# Altium integrated library Particle-Devices.Library.IntLib: 26 symbols
Pins are listed as number, name and electrical type; pins without a type are passive.

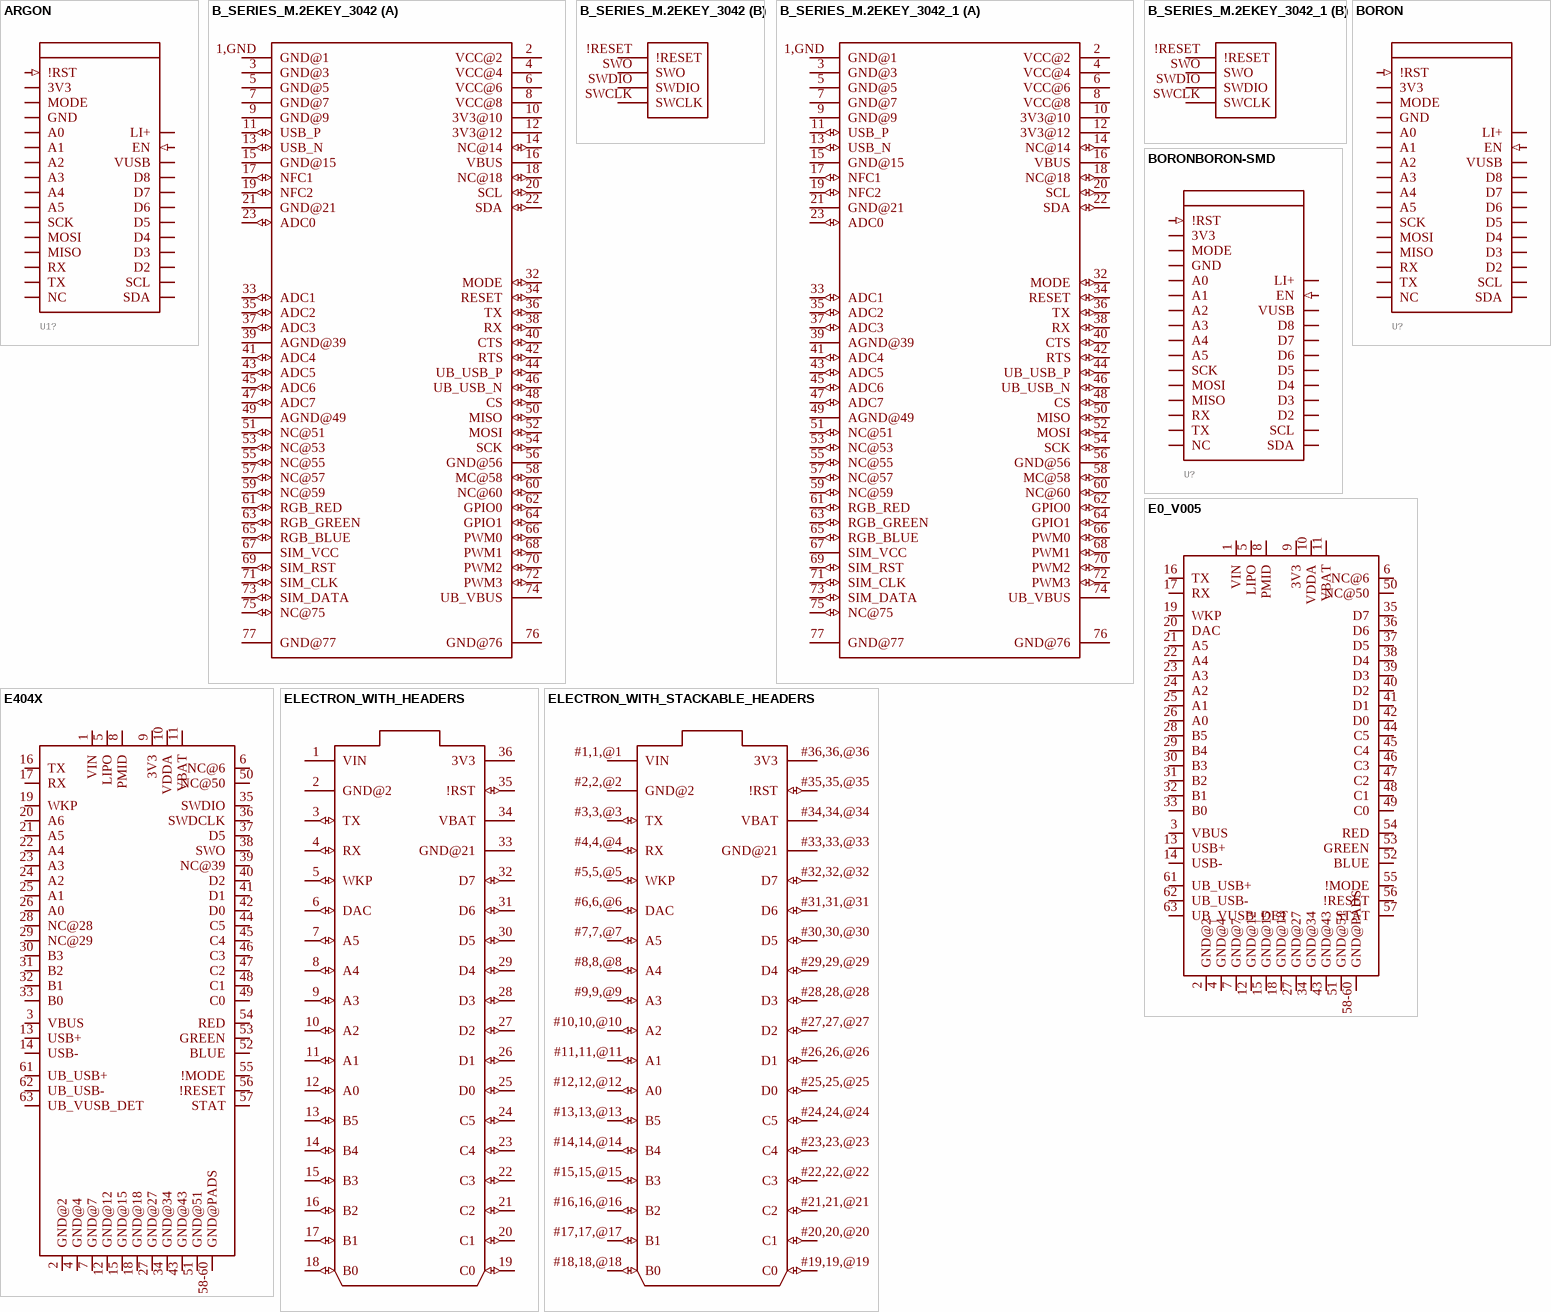
[diagram p0: symbols ARGON to ELECTRON_WITH_STACKABLE_HEADERS]

## ARGON
designator U1?, comment ARGON   The Particle Argon is a powerful Wi-Fi development kit. More information: https://docs.particle.io/argon/ Footprint and formfactor based on Adafruit Feather.  (value not drawn)
GateName_1: U1; SymbolName_1: ARGON; LibraryName: Particle-Devices; DeviceSetName: ARGON; Package: ARGON
footprint ARGON
pins: 1 !RST (in), 2 3V3 (power), 3 MODE (io), 4 GND (power), 5 A0 (io), 6 A1 (io), 7 A2 (io), 8 A3 (io), 9 A4 (io), 10 A5 (io), 11 SCK (io), 12 MOSI (io), 13 MISO (io), 14 RX (io), 15 TX (io), 16 NC (io), 17 SDA (io), 18 SCL (io), 19 D2 (io), 20 D3 (io), 21 D4 (io), 22 D5 (io), 23 D6 (io), 24 D7 (io), 25 D8 (io), 26 VUSB (power), 27 EN (in), 28 LI+ (power)

## B_SERIES_M.2EKEY_3042
designator U1?, comment Particle B Series SoM 3042 M.2 Connector with E Key  Width = 30mm Length = 42mm Height = 4.2mm Key = E  (value not drawn)
GateName_1: U1; SymbolName_1: B_SERIES_M.2EKEY; GateName_2: G$1; SymbolName_2: B_SERIES_SWD; DeviceName: 3042; DeviceSetName: B_SERIES_M.2EKEY_; LibraryName: Particle-Devices; Package: PARTICLE_M.2EKEY
footprint PARTICLE_M.2EKEY
part A pins: 1,GND GND@1 (power), 2 VCC@2 (power), 3 GND@3 (power), 4 VCC@4 (power), 5 GND@5 (power), 6 VCC@6 (power), 7 GND@7 (power), 8 VCC@8 (power), 9 GND@9 (power), 10 3V3@10 (power), 11 USB_P (io), 12 3V3@12 (power), 13 USB_N (io), 14 NC@14 (io), 15 GND@15 (power), 16 VBUS (power), 17 NFC1 (io), 18 NC@18 (io), 19 NFC2 (io), 20 SCL (io), 21 GND@21 (power), 22 SDA (io), 23 ADC0 (io), 32 MODE (io), 33 ADC1 (io), 34 RESET (io), 35 ADC2 (io), 36 TX (io), 37 ADC3 (io), 38 RX (io), 39 AGND@39 (power), 40 CTS (io), 41 ADC4 (io), 42 RTS (io), 43 ADC5 (io), 44 UB_USB_P (io), 45 ADC6 (io), 46 UB_USB_N (io), 47 ADC7 (io), 48 CS (io), 49 AGND@49 (power), 50 MISO (io), 51 NC@51 (io), 52 MOSI (io), 53 NC@53 (io), 54 SCK (io), 55 NC@55 (io), 56 GND@56 (power), 57 NC@57 (io), 58 MC@58 (io), 59 NC@59 (io), 60 NC@60 (io), 61 RGB_RED (io), 62 GPIO0 (io), 63 RGB_GREEN (io), 64 GPIO1 (io), 65 RGB_BLUE (io), 66 PWM0 (io), 67 SIM_VCC (power), 68 PWM1 (io), 69 SIM_RST (io), 70 PWM2 (io), 71 SIM_CLK (io), 72 PWM3 (io), 73 SIM_DATA (io), 74 UB_VBUS (power), 75 NC@75 (io), 76 GND@76 (power), 77 GND@77 (power)
part B pins: !RESET (power), SWCLK (power), SWDIO (power), SWO (power)

## B_SERIES_M.2EKEY_3042_1
designator U1?, comment Particle B Series SoM 3042 M.2 Connector with E Key  Width = 30mm Length = 42mm Height = 4.2mm Key = E  (value not drawn)
GateName_1: U1; SymbolName_1: B_SERIES_M.2EKEY; GateName_2: G$1; SymbolName_2: B_SERIES_SWD; DeviceName: 3042; DeviceSetName: B_SERIES_M.2EKEY_; LibraryName: Particle-Devices; Package: PARTICLE_M.2EKEY
footprint PARTICLE_M.2EKEY
part A pins: 1,GND GND@1 (power), 2 VCC@2 (power), 3 GND@3 (power), 4 VCC@4 (power), 5 GND@5 (power), 6 VCC@6 (power), 7 GND@7 (power), 8 VCC@8 (power), 9 GND@9 (power), 10 3V3@10 (power), 11 USB_P (io), 12 3V3@12 (power), 13 USB_N (io), 14 NC@14 (io), 15 GND@15 (power), 16 VBUS (power), 17 NFC1 (io), 18 NC@18 (io), 19 NFC2 (io), 20 SCL (io), 21 GND@21 (power), 22 SDA (io), 23 ADC0 (io), 32 MODE (io), 33 ADC1 (io), 34 RESET (io), 35 ADC2 (io), 36 TX (io), 37 ADC3 (io), 38 RX (io), 39 AGND@39 (power), 40 CTS (io), 41 ADC4 (io), 42 RTS (io), 43 ADC5 (io), 44 UB_USB_P (io), 45 ADC6 (io), 46 UB_USB_N (io), 47 ADC7 (io), 48 CS (io), 49 AGND@49 (power), 50 MISO (io), 51 NC@51 (io), 52 MOSI (io), 53 NC@53 (io), 54 SCK (io), 55 NC@55 (io), 56 GND@56 (power), 57 NC@57 (io), 58 MC@58 (io), 59 NC@59 (io), 60 NC@60 (io), 61 RGB_RED (io), 62 GPIO0 (io), 63 RGB_GREEN (io), 64 GPIO1 (io), 65 RGB_BLUE (io), 66 PWM0 (io), 67 SIM_VCC (power), 68 PWM1 (io), 69 SIM_RST (io), 70 PWM2 (io), 71 SIM_CLK (io), 72 PWM3 (io), 73 SIM_DATA (io), 74 UB_VBUS (power), 75 NC@75 (io), 76 GND@76 (power), 77 GND@77 (power)
part B pins: !RESET (power), SWCLK (power), SWDIO (power), SWO (power)

## BORON
designator U?, comment BORON   The Particle Boron cellular enabled development kit. More information: https://docs.particle.io/boron/ Footprint and formfactor based on Adafruit Feather.  (value not drawn)
GateName_1: U1; SymbolName_1: BORON; LibraryName: Particle-Devices; DeviceSetName: BORON; Package: BORON
footprint BORON
pins: 1 !RST (in), 2 3V3 (power), 3 MODE (io), 4 GND (power), 5 A0 (io), 6 A1 (io), 7 A2 (io), 8 A3 (io), 9 A4 (io), 10 A5 (io), 11 SCK (io), 12 MOSI (io), 13 MISO (io), 14 RX (io), 15 TX (io), 16 NC (io), 17 SDA (io), 18 SCL (io), 19 D2 (io), 20 D3 (io), 21 D4 (io), 22 D5 (io), 23 D6 (io), 24 D7 (io), 25 D8 (io), 26 VUSB (power), 27 EN (in), 28 LI+ (power)

## BORONBORON-SMD
designator U?, comment BORON   The Particle Boron cellular enabled development kit. More information: https://docs.particle.io/boron/ Footprint and formfactor based on Adafruit Feather.  (value not drawn)
GateName_1: U1; DeviceName: BORON-SMD; SymbolName_1: BORON; LibraryName: Particle-Devices; DeviceSetName: BORON; Package: BORON-SMD
footprint BORON-SMD
pins: 1 !RST (in), 2 3V3 (power), 3 MODE (io), 4 GND (power), 5 A0 (io), 6 A1 (io), 7 A2 (io), 8 A3 (io), 9 A4 (io), 10 A5 (io), 11 SCK (io), 12 MOSI (io), 13 MISO (io), 14 RX (io), 15 TX (io), 16 NC (io), 17 SDA (io), 18 SCL (io), 19 D2 (io), 20 D3 (io), 21 D4 (io), 22 D5 (io), 23 D6 (io), 24 D7 (io), 25 D8 (io), 26 VUSB (power), 27 EN (in), 28 LI+ (power)

## E0_V005
designator U?, comment Particleâ€™s E Series module platform is the Worldâ€™s simplest solution for developing and deploying cellular-connected IoT products.  Product Page : Datasheet Github : Particle devices library  (value not drawn)
GateName_1: G$1; SymbolName_1: E0; DeviceName: _V005; LibraryName: Particle-Devices; DeviceSetName: E0; Package: E0
footprint E0
pins: 1 VIN (io), 2 GND@2 (io), 3 VBUS (io), 4 GND@4 (io), 5 LIPO (io), 6 NC@6 (io), 7 GND@7 (io), 8 PMID (io), 9 3V3 (io), 10 VDDA (io), 11 VBAT (io), 12 GND@12 (io), 13 USB+ (io), 14 USB- (io), 15 GND@15 (io), 16 TX (io), 17 RX (io), 18 GND@18 (io), 19 WKP (io), 20 DAC (io), 21 A5 (io), 22 A4 (io), 23 A3 (io), 24 A2 (io), 25 A1 (io), 26 A0 (io), 27 GND@27 (io), 28 B5 (io), 29 B4 (io), 30 B3 (io), 31 B2 (io), 32 B1 (io), 33 B0 (io), 34 GND@34 (io), 35 D7 (io), 36 D6 (io), 37 D5 (io), 38 D4 (io), 39 D3 (io), 40 D2 (io), 41 D1 (io), 42 D0 (io), 43 GND@43 (io), 44 C5 (io), 45 C4 (io), 46 C3 (io), 47 C2 (io), 48 C1 (io), 49 C0 (io), 50 NC@50 (io), 51 GND@51 (io), 52 BLUE (io), 53 GREEN (io), 54 RED (io), 55 !MODE (io), 56 !RESET (io), 57 STAT (io), 58-60 GND@PADS (io), 61 UB_USB+ (io), 62 UB_USB- (io), 63 UB_VUSB_DET (io)

## E404X
designator U?, comment Particle E0  (value not drawn)
GateName_1: G$1; SymbolName_1: PARTICLE_EVO; DeviceSetName: E404X; LibraryName: Particle-Devices; Package: PARTICLE_EVO
footprint PARTICLE_EVO
pins: 1 VIN (io), 2 GND@2 (io), 3 VBUS (io), 4 GND@4 (io), 5 LIPO (io), 6 NC@6 (io), 7 GND@7 (io), 8 PMID (io), 9 3V3 (io), 10 VDDA (io), 11 VBAT (io), 12 GND@12 (io), 13 USB+ (io), 14 USB- (io), 15 GND@15 (io), 16 TX (io), 17 RX (io), 18 GND@18 (io), 19 WKP (io), 20 A6 (io), 21 A5 (io), 22 A4 (io), 23 A3 (io), 24 A2 (io), 25 A1 (io), 26 A0 (io), 27 GND@27 (io), 28 NC@28 (io), 29 NC@29 (io), 30 B3 (io), 31 B2 (io), 32 B1 (io), 33 B0 (io), 34 GND@34 (io), 35 SWDIO (io), 36 SWDCLK (io), 37 D5 (io), 38 SWO (io), 39 NC@39 (io), 40 D2 (io), 41 D1 (io), 42 D0 (io), 43 GND@43 (io), 44 C5 (io), 45 C4 (io), 46 C3 (io), 47 C2 (io), 48 C1 (io), 49 C0 (io), 50 NC@50 (io), 51 GND@51 (io), 52 BLUE (io), 53 GREEN (io), 54 RED (io), 55 !MODE (io), 56 !RESET (io), 57 STAT (io), 58-60 GND@PADS (io), 61 UB_USB+ (io), 62 UB_USB- (io), 63 UB_VUSB_DET (io)

## ELECTRON_WITH_HEADERS
designator ?, comment The Particle Electron is a tiny development kit for creating cellular-connected electronics projects and products. It comes with a SIM card (Nano 4FF) and an affordable data plan for low-bandwidth things.   Design files : here Product Page : Datasheet Github : Particle devices library  (value not drawn)
GateName_1: G$1; DeviceName: _WITH_HEADERS; SymbolName_1: ELECTRON; LibraryName: Particle-Devices; DeviceSetName: ELECTRON; Package: ELECTRON
footprint ELECTRON
pins: 1 VIN (power), 2 GND@2 (power), 3 TX (io), 4 RX (io), 5 WKP (io), 6 DAC (io), 7 A5 (io), 8 A4 (io), 9 A3 (io), 10 A2 (io), 11 A1 (io), 12 A0 (io), 13 B5 (io), 14 B4 (io), 15 B3 (io), 16 B2 (io), 17 B1 (io), 18 B0 (io), 19 C0 (io), 20 C1 (io), 21 C2 (io), 22 C3 (io), 23 C4 (io), 24 C5 (io), 25 D0 (io), 26 D1 (io), 27 D2 (io), 28 D3 (io), 29 D4 (io), 30 D5 (io), 31 D6 (io), 32 D7 (io), 33 GND@21 (power), 34 VBAT (power), 35 !RST (io), 36 3V3 (power)

## ELECTRON_WITH_STACKABLE_HEADERS
designator ?, comment The Particle Electron is a tiny development kit for creating cellular-connected electronics projects and products. It comes with a SIM card (Nano 4FF) and an affordable data plan for low-bandwidth things.   Design files : here Product Page : Datasheet Github : Particle devices library  (value not drawn)
GateName_1: G$1; DeviceName: _WITH_STACKABLE_HEADERS; SymbolName_1: ELECTRON; LibraryName: Particle-Devices; DeviceSetName: ELECTRON; Package: ELECTRON_STACKABLE
footprint ELECTRON_STACKABLE
pins: #1,1,@1 VIN (power), #2,2,@2 GND@2 (power), #3,3,@3 TX (io), #4,4,@4 RX (io), #5,5,@5 WKP (io), #6,6,@6 DAC (io), #7,7,@7 A5 (io), #8,8,@8 A4 (io), #9,9,@9 A3 (io), #10,10,@10 A2 (io), #11,11,@11 A1 (io), #12,12,@12 A0 (io), #13,13,@13 B5 (io), #14,14,@14 B4 (io), #15,15,@15 B3 (io), #16,16,@16 B2 (io), #17,17,@17 B1 (io), #18,18,@18 B0 (io), #19,19,@19 C0 (io), #20,20,@20 C1 (io), #21,21,@21 C2 (io), #22,22,@22 C3 (io), #23,23,@23 C4 (io), #24,24,@24 C5 (io), #25,25,@25 D0 (io), #26,26,@26 D1 (io), #27,27,@27 D2 (io), #28,28,@28 D3 (io), #29,29,@29 D4 (io), #30,30,@30 D5 (io), #31,31,@31 D6 (io), #32,32,@32 D7 (io), #33,33,@33 GND@21 (power), #34,34,@34 VBAT (power), #35,35,@35 !RST (io), #36,36,@36 3V3 (power)

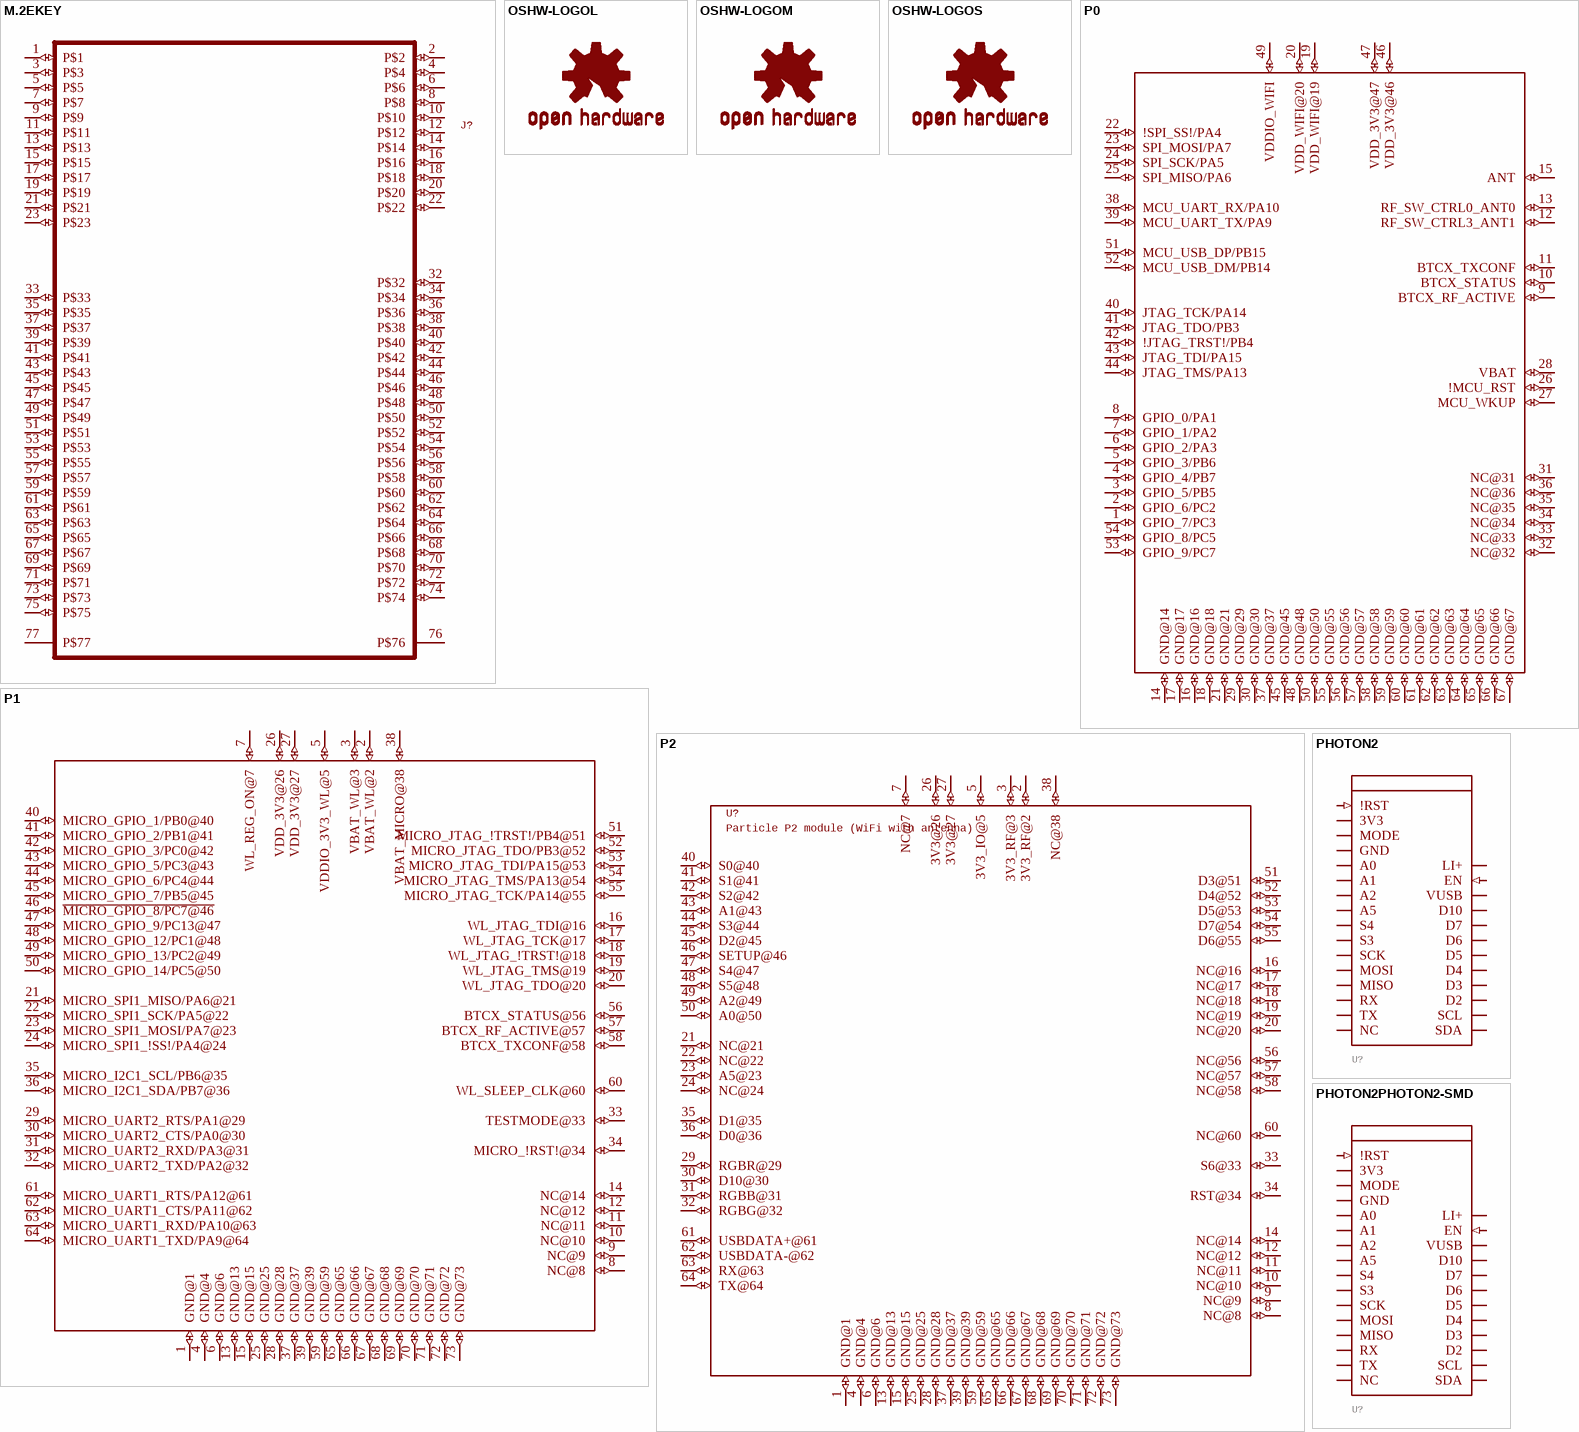
[diagram p1: symbols M.2EKEY to PHOTON2PHOTON2-SMD]

## M.2EKEY
designator J?
GateName_1: G$1; SymbolName_1: M.2EKEY; LibraryName: Particle-Devices; DeviceSetName: M.2EKEY; Package: M.2EKEY
footprint M.2EKEY
pins: 1 P$1 (io), 2 P$2 (io), 3 P$3 (io), 4 P$4 (io), 5 P$5 (io), 6 P$6 (io), 7 P$7 (io), 8 P$8 (io), 9 P$9 (io), 10 P$10 (io), 11 P$11 (io), 12 P$12 (io), 13 P$13 (io), 14 P$14 (io), 15 P$15 (io), 16 P$16 (io), 17 P$17 (io), 18 P$18 (io), 19 P$19 (io), 20 P$20 (io), 21 P$21 (io), 22 P$22 (io), 23 P$23 (io), 32 P$32 (io), 33 P$33 (io), 34 P$34 (io), 35 P$35 (io), 36 P$36 (io), 37 P$37 (io), 38 P$38 (io), 39 P$39 (io), 40 P$40 (io), 41 P$41 (io), 42 P$42 (io), 43 P$43 (io), 44 P$44 (io), 45 P$45 (io), 46 P$46 (io), 47 P$47 (io), 48 P$48 (io), 49 P$49 (io), 50 P$50 (io), 51 P$51 (io), 52 P$52 (io), 53 P$53 (io), 54 P$54 (io), 55 P$55 (io), 56 P$56 (io), 57 P$57 (io), 58 P$58 (io), 59 P$59 (io), 60 P$60 (io), 61 P$61 (io), 62 P$62 (io), 63 P$63 (io), 64 P$64 (io), 65 P$65 (io), 66 P$66 (io), 67 P$67 (io), 68 P$68 (io), 69 P$69 (io), 70 P$70 (io), 71 P$71 (io), 72 P$72 (io), 73 P$73 (io), 74 P$74 (io), 75 P$75 (io), 76 P$76 (power), 77 P$77 (power)

## OSHW-LOGOL
designator LOGO?, comment Open Source Hardware Logo This logo indicates the piece of hardware it is found on incorporates a OSHW license and/or adheres to the definition of open source hardware found here: http://freedomdefined.org/OSHW  (value not drawn)
GateName_1: G$1; SymbolName_1: OSHW-LOGO; DeviceName: L; LibraryName: Particle-Devices; DeviceSetName: OSHW-LOGO; Package: OSHW-LOGO-L
footprint OSHW-LOGO-L

## OSHW-LOGOM
designator LOGO?, comment Open Source Hardware Logo This logo indicates the piece of hardware it is found on incorporates a OSHW license and/or adheres to the definition of open source hardware found here: http://freedomdefined.org/OSHW  (value not drawn)
GateName_1: G$1; SymbolName_1: OSHW-LOGO; DeviceName: M; LibraryName: Particle-Devices; DeviceSetName: OSHW-LOGO; Package: OSHW-LOGO-M
footprint OSHW-LOGO-M

## OSHW-LOGOS
designator LOGO?, comment Open Source Hardware Logo This logo indicates the piece of hardware it is found on incorporates a OSHW license and/or adheres to the definition of open source hardware found here: http://freedomdefined.org/OSHW  (value not drawn)
GateName_1: G$1; SymbolName_1: OSHW-LOGO; DeviceName: S; LibraryName: Particle-Devices; DeviceSetName: OSHW-LOGO; Package: OSHW-LOGO-S
footprint OSHW-LOGO-S

## P0
designator U?, comment Particle P0 module (WiFi without antenna)  (value not drawn)
GateName_1: G$1; SymbolName_1: WM-N-BM-09; LibraryName: Particle-Devices; DeviceSetName: P0; Package: WM-N-BM-09
footprint WM-N-BM-09
pins: 1 GPIO_7/PC3 (io), 2 GPIO_6/PC2 (io), 3 GPIO_5/PB5 (io), 4 GPIO_4/PB7 (io), 5 GPIO_3/PB6 (io), 6 GPIO_2/PA3 (io), 7 GPIO_1/PA2 (io), 8 GPIO_0/PA1 (io), 9 BTCX_RF_ACTIVE (io), 10 BTCX_STATUS (io), 11 BTCX_TXCONF (io), 12 RF_SW_CTRL3_ANT1 (io), 13 RF_SW_CTRL0_ANT0 (io), 14 GND@14 (io), 15 ANT (io), 16 GND@16 (io), 17 GND@17 (io), 18 GND@18 (io), 19 VDD_WIFI@19 (io), 20 VDD_WIFI@20 (io), 21 GND@21 (io), 22 !SPI_SS!/PA4 (io), 23 SPI_MOSI/PA7 (io), 24 SPI_SCK/PA5 (io), 25 SPI_MISO/PA6 (io), 26 !MCU_RST (io), 27 MCU_WKUP (io), 28 VBAT (io), 29 GND@29 (io), 30 GND@30 (io), 31 NC@31 (io), 32 NC@32 (io), 33 NC@33 (io), 34 NC@34 (io), 35 NC@35 (io), 36 NC@36 (io), 37 GND@37 (io), 38 MCU_UART_RX/PA10 (io), 39 MCU_UART_TX/PA9 (io), 40 JTAG_TCK/PA14 (io), 41 JTAG_TDO/PB3 (io), 42 !JTAG_TRST!/PB4 (io), 43 JTAG_TDI/PA15 (io), 44 JTAG_TMS/PA13 (io), 45 GND@45 (io), 46 VDD_3V3@46 (io), 47 VDD_3V3@47 (io), 48 GND@48 (io), 49 VDDIO_WIFI (io), 50 GND@50 (io), 51 MCU_USB_DP/PB15 (io), 52 MCU_USB_DM/PB14 (io), 53 GPIO_9/PC7 (io), 54 GPIO_8/PC5 (io), 55 GND@55 (io), 56 GND@56 (io), 57 GND@57 (io), 58 GND@58 (io), 59 GND@59 (io), 60 GND@60 (io), 61 GND@61 (io), 62 GND@62 (io), 63 GND@63 (io), 64 GND@64 (io), 65 GND@65 (io), 66 GND@66 (io), 67 GND@67 (io)

## P1
designator ?, comment Particle P1 module (WiFi with antenna)  Product datasheet: here Github : Particle devices library  (value not drawn)
GateName_1: G$1; SymbolName_1: WM-N-BM-14; LibraryName: Particle-Devices; DeviceSetName: P1; Package: WM-N-BM-14
footprint WM-N-BM-14
pins: 1 GND@1 (io), 2 VBAT_WL@2 (io), 3 VBAT_WL@3 (io), 4 GND@4 (io), 5 VDDIO_3V3_WL@5 (io), 6 GND@6 (io), 7 WL_REG_ON@7 (io), 8 NC@8 (io), 9 NC@9 (io), 10 NC@10 (io), 11 NC@11 (io), 12 NC@12 (io), 13 GND@13 (io), 14 NC@14 (io), 15 GND@15 (io), 16 WL_JTAG_TDI@16 (io), 17 WL_JTAG_TCK@17 (io), 18 WL_JTAG_!TRST!@18 (io), 19 WL_JTAG_TMS@19 (io), 20 WL_JTAG_TDO@20 (io), 21 MICRO_SPI1_MISO/PA6@21 (io), 22 MICRO_SPI1_SCK/PA5@22 (io), 23 MICRO_SPI1_MOSI/PA7@23 (io), 24 MICRO_SPI1_!SS!/PA4@24 (io), 25 GND@25 (io), 26 VDD_3V3@26 (io), 27 VDD_3V3@27 (io), 28 GND@28 (io), 29 MICRO_UART2_RTS/PA1@29 (io), 30 MICRO_UART2_CTS/PA0@30 (io), 31 MICRO_UART2_RXD/PA3@31 (io), 32 MICRO_UART2_TXD/PA2@32 (io), 33 TESTMODE@33 (io), 34 MICRO_!RST!@34 (io), 35 MICRO_I2C1_SCL/PB6@35 (io), 36 MICRO_I2C1_SDA/PB7@36 (io), 37 GND@37 (io), 38 VBAT_MICRO@38 (io), 39 GND@39 (io), 40 MICRO_GPIO_1/PB0@40 (io), 41 MICRO_GPIO_2/PB1@41 (io), 42 MICRO_GPIO_3/PC0@42 (io), 43 MICRO_GPIO_5/PC3@43 (io), 44 MICRO_GPIO_6/PC4@44 (io), 45 MICRO_GPIO_7/PB5@45 (io), 46 ~{MICRO_GPIO_8/PC7@46} (io), 47 MICRO_GPIO_9/PC13@47 (io), 48 MICRO_GPIO_12/PC1@48 (io), 49 MICRO_GPIO_13/PC2@49 (io), 50 MICRO_GPIO_14/PC5@50 (io), 51 MICRO_JTAG_!TRST!/PB4@51 (io), 52 MICRO_JTAG_TDO/PB3@52 (io), 53 MICRO_JTAG_TDI/PA15@53 (io), 54 MICRO_JTAG_TMS/PA13@54 (io), 55 MICRO_JTAG_TCK/PA14@55 (io), 56 BTCX_STATUS@56 (io), 57 BTCX_RF_ACTIVE@57 (io), 58 BTCX_TXCONF@58 (io), 59 GND@59 (io), 60 WL_SLEEP_CLK@60 (io), 61 MICRO_UART1_RTS/PA12@61 (io), 62 MICRO_UART1_CTS/PA11@62 (io), 63 MICRO_UART1_RXD/PA10@63 (io), 64 MICRO_UART1_TXD/PA9@64 (io), 65 GND@65 (io), 66 GND@66 (io), 67 GND@67 (io), 68 GND@68 (io), 69 GND@69 (io), 70 GND@70 (io), 71 GND@71 (io), 72 GND@72 (io), 73 GND@73 (io)

## P2
designator U?, comment Particle P2 module (WiFi with antenna)
GateName_1: G$1; SymbolName_1: P2; LibraryName: Particle-Devices; DeviceSetName: P2; Package: P2
footprint P2
pins: 1 GND@1 (io), 2 3V3_RF@2 (io), 3 3V3_RF@3 (io), 4 GND@4 (io), 5 3V3_IO@5 (io), 6 GND@6 (io), 7 NC@7 (io), 8 NC@8 (io), 9 NC@9 (io), 10 NC@10 (io), 11 NC@11 (io), 12 NC@12 (io), 13 GND@13 (io), 14 NC@14 (io), 15 GND@15 (io), 16 NC@16 (io), 17 NC@17 (io), 18 NC@18 (io), 19 NC@19 (io), 20 NC@20 (io), 21 NC@21 (io), 22 NC@22 (io), 23 A5@23 (io), 24 NC@24 (io), 25 GND@25 (io), 26 3V3@26 (io), 27 3V3@27 (io), 28 GND@28 (io), 29 RGBR@29 (io), 30 D10@30 (io), 31 RGBB@31 (io), 32 RGBG@32 (io), 33 S6@33 (io), 34 RST@34 (io), 35 D1@35 (io), 36 D0@36 (io), 37 GND@37 (io), 38 NC@38 (io), 39 GND@39 (io), 40 S0@40 (io), 41 S1@41 (io), 42 S2@42 (io), 43 A1@43 (io), 44 S3@44 (io), 45 D2@45 (io), 46 SETUP@46 (io), 47 S4@47 (io), 48 S5@48 (io), 49 A2@49 (io), 50 A0@50 (io), 51 D3@51 (io), 52 D4@52 (io), 53 D5@53 (io), 54 D7@54 (io), 55 D6@55 (io), 56 NC@56 (io), 57 NC@57 (io), 58 NC@58 (io), 59 GND@59 (io), 60 NC@60 (io), 61 USBDATA+@61 (io), 62 USBDATA-@62 (io), 63 RX@63 (io), 64 TX@64 (io), 65 GND@65 (io), 66 GND@66 (io), 67 GND@67 (io), 68 GND@68 (io), 69 GND@69 (io), 70 GND@70 (io), 71 GND@71 (io), 72 GND@72 (io), 73 GND@73 (io)

## PHOTON2
designator U?, comment Particle Photon 2 Wi-Fi enabled development kit   Footprint and formfactor based on Adafruit Feather.  (value not drawn)
GateName_1: G$1; SymbolName_1: PHOTON2; LibraryName: Particle-Devices; DeviceSetName: PHOTON2; Package: PHOTON2
footprint PHOTON2
pins: 1 !RST (in), 2 3V3 (power), 3 MODE (io), 4 GND (power), 5 A0 (io), 6 A1 (io), 7 A2 (io), 8 A5 (io), 9 S4 (io), 10 S3 (io), 11 SCK (io), 12 MOSI (io), 13 MISO (io), 14 RX (io), 15 TX (io), 16 NC (io), 17 SDA (io), 18 SCL (io), 19 D2 (io), 20 D3 (io), 21 D4 (io), 22 D5 (io), 23 D6 (io), 24 D7 (io), 25 D10 (io), 26 VUSB (power), 27 EN (in), 28 LI+ (power)

## PHOTON2PHOTON2-SMD
designator U?, comment Particle Photon 2 Wi-Fi enabled development kit   Footprint and formfactor based on Adafruit Feather.  (value not drawn)
GateName_1: G$1; DeviceName: PHOTON2-SMD; SymbolName_1: PHOTON2; LibraryName: Particle-Devices; DeviceSetName: PHOTON2; Package: PHOTON2-SMD
footprint PHOTON2-SMD
pins: 1 !RST (in), 2 3V3 (power), 3 MODE (io), 4 GND (power), 5 A0 (io), 6 A1 (io), 7 A2 (io), 8 A5 (io), 9 S4 (io), 10 S3 (io), 11 SCK (io), 12 MOSI (io), 13 MISO (io), 14 RX (io), 15 TX (io), 16 NC (io), 17 SDA (io), 18 SCL (io), 19 D2 (io), 20 D3 (io), 21 D4 (io), 22 D5 (io), 23 D6 (io), 24 D7 (io), 25 D10 (io), 26 VUSB (power), 27 EN (in), 28 LI+ (power)

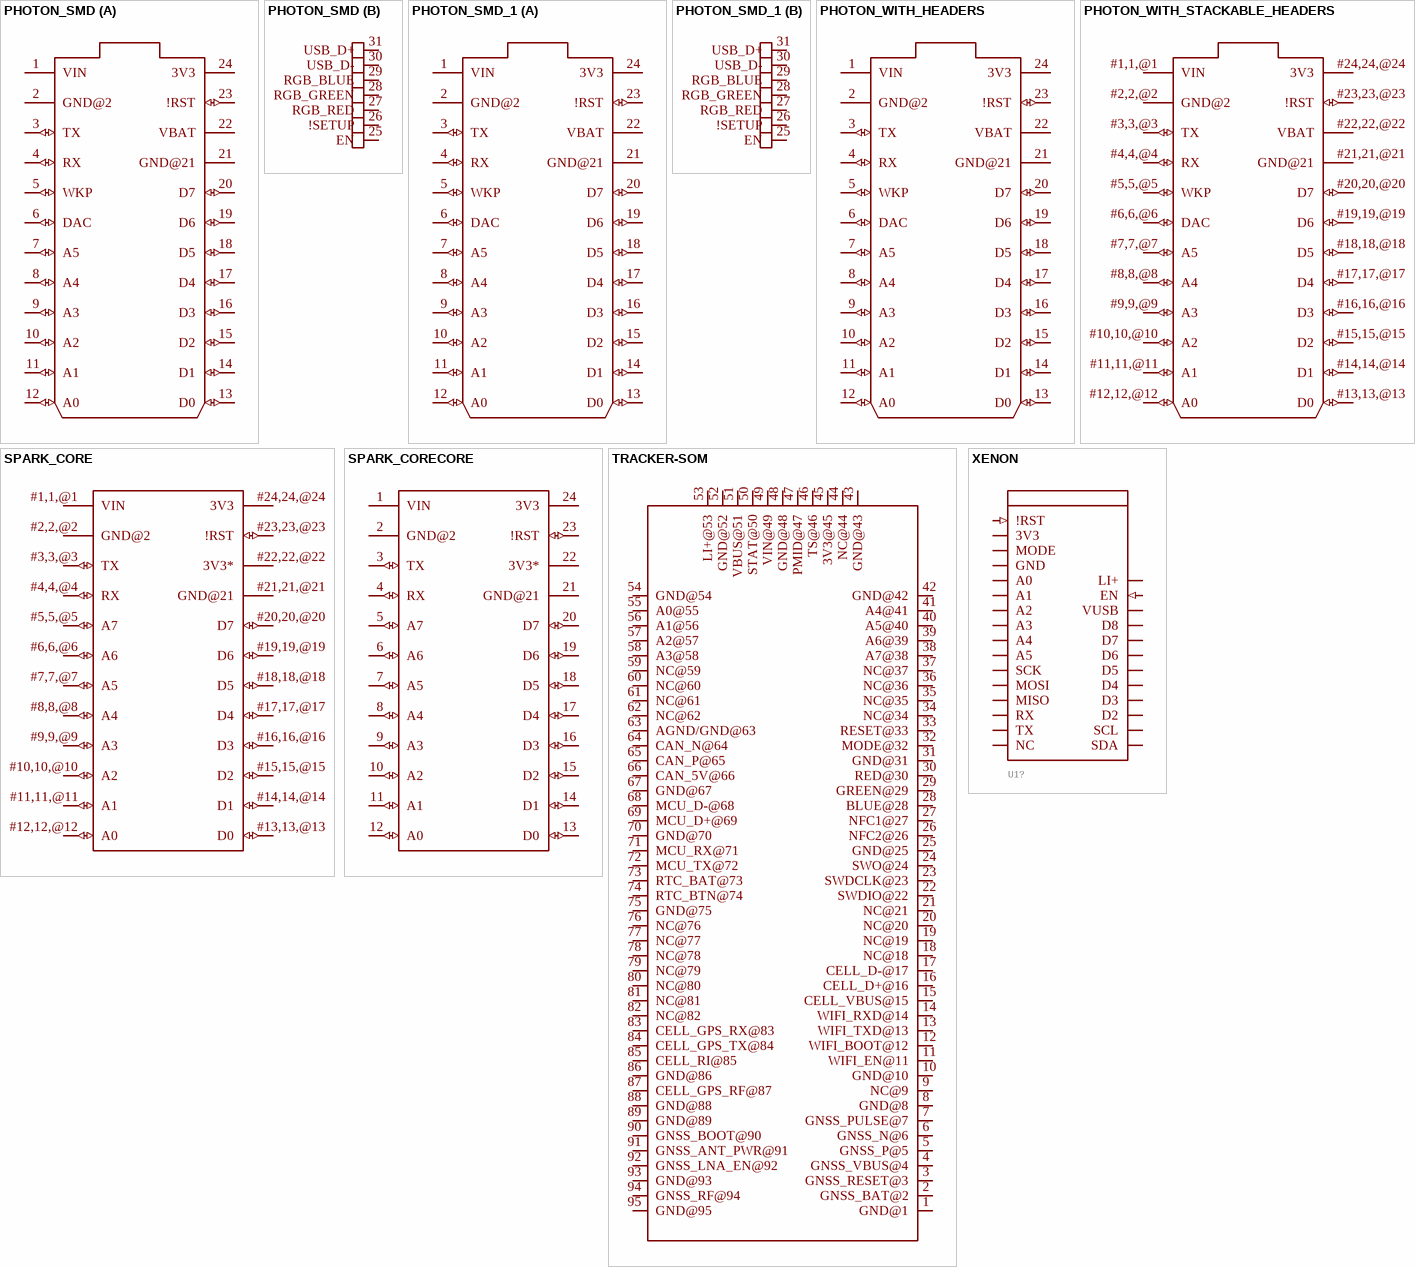
[diagram p2: symbols PHOTON_SMD to XENON]

## PHOTON_SMD
designator ?, comment Particle Photon (without headers) WiFi development board footprint - designed to be surface mounted with 7 extra exposed pads on the bottom of the board which include, 3 RGB LED outputs, /SETUP, EN (3.3V SMPS enable input), USB D+ and USB D-.  Product datasheet: here Design files: here Github : Particle devices library  (value not drawn)
GateName_1: G$1; GateName_2: G$2; SymbolName_2: PHOTON_PADS; DeviceSetName: PHOTON_SMD; SymbolName_1: PHOTON; LibraryName: Particle-Devices; Package: PHOTON_SMD
footprint PHOTON_SMD
part A pins: 1 VIN (power), 2 GND@2 (power), 3 TX (io), 4 RX (io), 5 WKP (io), 6 DAC (io), 7 A5 (io), 8 A4 (io), 9 A3 (io), 10 A2 (io), 11 A1 (io), 12 A0 (io), 13 D0 (io), 14 D1 (io), 15 D2 (io), 16 D3 (io), 17 D4 (io), 18 D5 (io), 19 D6 (io), 20 D7 (io), 21 GND@21 (power), 22 VBAT (power), 23 !RST (io), 24 3V3 (power)
part B pins: 25 EN (io), 26 !SETUP (io), 27 RGB_RED (io), 28 RGB_GREEN (io), 29 RGB_BLUE (io), 30 USB_D- (io), 31 USB_D+ (io)

## PHOTON_SMD_1
designator ?, comment Particle Photon (without headers) WiFi development board footprint - designed to be surface mounted with 7 extra exposed pads on the bottom of the board which include, 3 RGB LED outputs, /SETUP, EN (3.3V SMPS enable input), USB D+ and USB D-.  Product datasheet: here Design files: here Github : Particle devices library  (value not drawn)
GateName_1: G$1; GateName_2: G$2; SymbolName_2: PHOTON_PADS; DeviceSetName: PHOTON_SMD; SymbolName_1: PHOTON; LibraryName: Particle-Devices; Package: PHOTON_SMD
footprint PHOTON_SMD
part A pins: 1 VIN (power), 2 GND@2 (power), 3 TX (io), 4 RX (io), 5 WKP (io), 6 DAC (io), 7 A5 (io), 8 A4 (io), 9 A3 (io), 10 A2 (io), 11 A1 (io), 12 A0 (io), 13 D0 (io), 14 D1 (io), 15 D2 (io), 16 D3 (io), 17 D4 (io), 18 D5 (io), 19 D6 (io), 20 D7 (io), 21 GND@21 (power), 22 VBAT (power), 23 !RST (io), 24 3V3 (power)
part B pins: 25 EN (io), 26 !SETUP (io), 27 RGB_RED (io), 28 RGB_GREEN (io), 29 RGB_BLUE (io), 30 USB_D- (io), 31 USB_D+ (io)

## PHOTON_WITH_HEADERS
designator ?, comment Particle Photon Wi-Fi through-hole development board footprint  Product datasheet: here Design files: here Github : Particle devices library  (value not drawn)
GateName_1: G$1; DeviceName: _WITH_HEADERS; SymbolName_1: PHOTON; LibraryName: Particle-Devices; DeviceSetName: PHOTON; Package: PHOTON
footprint PHOTON
pins: 1 VIN (power), 2 GND@2 (power), 3 TX (io), 4 RX (io), 5 WKP (io), 6 DAC (io), 7 A5 (io), 8 A4 (io), 9 A3 (io), 10 A2 (io), 11 A1 (io), 12 A0 (io), 13 D0 (io), 14 D1 (io), 15 D2 (io), 16 D3 (io), 17 D4 (io), 18 D5 (io), 19 D6 (io), 20 D7 (io), 21 GND@21 (power), 22 VBAT (power), 23 !RST (io), 24 3V3 (power)

## PHOTON_WITH_STACKABLE_HEADERS
designator ?, comment Particle Photon Wi-Fi through-hole development board footprint  Product datasheet: here Design files: here Github : Particle devices library  (value not drawn)
GateName_1: G$1; DeviceName: _WITH_STACKABLE_HEADERS; SymbolName_1: PHOTON; LibraryName: Particle-Devices; DeviceSetName: PHOTON; Package: PHOTON_STACKABLE
footprint PHOTON_STACKABLE
pins: #1,1,@1 VIN (power), #2,2,@2 GND@2 (power), #3,3,@3 TX (io), #4,4,@4 RX (io), #5,5,@5 WKP (io), #6,6,@6 DAC (io), #7,7,@7 A5 (io), #8,8,@8 A4 (io), #9,9,@9 A3 (io), #10,10,@10 A2 (io), #11,11,@11 A1 (io), #12,12,@12 A0 (io), #13,13,@13 D0 (io), #14,14,@14 D1 (io), #15,15,@15 D2 (io), #16,16,@16 D3 (io), #17,17,@17 D4 (io), #18,18,@18 D5 (io), #19,19,@19 D6 (io), #20,20,@20 D7 (io), #21,21,@21 GND@21 (power), #22,22,@22 VBAT (power), #23,23,@23 !RST (io), #24,24,@24 3V3 (power)

## SPARK_CORE
designator ?, comment Particle/Spark Core WiFi development board footprint (discontinued)  Product datasheet: Design files: here Github : Particle devices library  (value not drawn)
GateName_1: G$1; SymbolName_1: SPARK_CORE; LibraryName: Particle-Devices; DeviceSetName: SPARK_CORE; Package: SPARK_CORE_STACKABLE
footprint SPARK_CORE_STACKABLE
pins: #1,1,@1 VIN (power), #2,2,@2 GND@2 (power), #3,3,@3 TX (io), #4,4,@4 RX (io), #5,5,@5 A7 (io), #6,6,@6 A6 (io), #7,7,@7 A5 (io), #8,8,@8 A4 (io), #9,9,@9 A3 (io), #10,10,@10 A2 (io), #11,11,@11 A1 (io), #12,12,@12 A0 (io), #13,13,@13 D0 (io), #14,14,@14 D1 (io), #15,15,@15 D2 (io), #16,16,@16 D3 (io), #17,17,@17 D4 (io), #18,18,@18 D5 (io), #19,19,@19 D6 (io), #20,20,@20 D7 (io), #21,21,@21 GND@21 (power), #22,22,@22 3V3* (power), #23,23,@23 !RST (io), #24,24,@24 3V3 (power)

## SPARK_CORECORE
designator ?, comment Particle/Spark Core WiFi development board footprint (discontinued)  Product datasheet: Design files: here Github : Particle devices library  (value not drawn)
GateName_1: G$1; SymbolName_1: SPARK_CORE; DeviceName: CORE; LibraryName: Particle-Devices; DeviceSetName: SPARK_CORE; Package: SPARK_CORE
footprint SPARK_CORE
pins: 1 VIN (power), 2 GND@2 (power), 3 TX (io), 4 RX (io), 5 A7 (io), 6 A6 (io), 7 A5 (io), 8 A4 (io), 9 A3 (io), 10 A2 (io), 11 A1 (io), 12 A0 (io), 13 D0 (io), 14 D1 (io), 15 D2 (io), 16 D3 (io), 17 D4 (io), 18 D5 (io), 19 D6 (io), 20 D7 (io), 21 GND@21 (power), 22 3V3* (power), 23 !RST (io), 24 3V3 (power)

## TRACKER-SOM
designator U?, comment Particle Tracker SoM Tracker SoM is a powerful, configurable, and extensible IoT System-on-Module (SoM) that builds on Particle's Tracking Services foundation and provides a powerful MCU, GNSS, and advanced peripherals in a compact form factor. More information: https://docs.particle.io/datasheets/asset-tracking/tracker-som-datasheet/  (value not drawn)
GateName_1: G$1; SymbolName_1: TRACKER-SOM; LibraryName: Particle-Devices; DeviceSetName: TRACKER-SOM; Package: TRACKER-SOM
footprint TRACKER-SOM
pins: 1 GND@1 (io), 2 GNSS_BAT@2 (io), 3 GNSS_RESET@3 (io), 4 GNSS_VBUS@4 (io), 5 GNSS_P@5 (io), 6 GNSS_N@6 (io), 7 GNSS_PULSE@7 (io), 8 GND@8 (io), 9 NC@9 (io), 10 GND@10 (io), 11 WIFI_EN@11 (io), 12 WIFI_BOOT@12 (io), 13 WIFI_TXD@13 (io), 14 WIFI_RXD@14 (io), 15 CELL_VBUS@15 (io), 16 CELL_D+@16 (io), 17 CELL_D-@17 (io), 18 NC@18 (io), 19 NC@19 (io), 20 NC@20 (io), 21 NC@21 (io), 22 SWDIO@22 (io), 23 SWDCLK@23 (io), 24 SWO@24 (io), 25 GND@25 (io), 26 NFC2@26 (io), 27 NFC1@27 (io), 28 BLUE@28 (io), 29 GREEN@29 (io), 30 RED@30 (io), 31 GND@31 (io), 32 MODE@32 (io), 33 RESET@33 (io), 34 NC@34 (io), 35 NC@35 (io), 36 NC@36 (io), 37 NC@37 (io), 38 A7@38 (io), 39 A6@39 (io), 40 A5@40 (io), 41 A4@41 (io), 42 GND@42 (io), 43 GND@43 (io), 44 NC@44 (io), 45 3V3@45 (io), 46 TS@46 (io), 47 PMID@47 (io), 48 GND@48 (io), 49 VIN@49 (io), 50 STAT@50 (io), 51 VBUS@51 (io), 52 GND@52 (io), 53 LI+@53 (io), 54 GND@54 (io), 55 A0@55 (io), 56 A1@56 (io), 57 A2@57 (io), 58 A3@58 (io), 59 NC@59 (io), 60 NC@60 (io), 61 NC@61 (io), 62 NC@62 (io), 63 AGND/GND@63 (io), 64 CAN_N@64 (io), 65 CAN_P@65 (io), 66 CAN_5V@66 (io), 67 GND@67 (io), 68 MCU_D-@68 (io), 69 MCU_D+@69 (io), 70 GND@70 (io), 71 MCU_RX@71 (io), 72 MCU_TX@72 (io), 73 RTC_BAT@73 (io), 74 RTC_BTN@74 (io), 75 GND@75 (io), 76 NC@76 (io), 77 NC@77 (io), 78 NC@78 (io), 79 NC@79 (io), 80 NC@80 (io), 81 NC@81 (io), 82 NC@82 (io), 83 CELL_GPS_RX@83 (io), 84 CELL_GPS_TX@84 (io), 85 CELL_RI@85 (io), 86 GND@86 (io), 87 CELL_GPS_RF@87 (io), 88 GND@88 (io), 89 GND@89 (io), 90 GNSS_BOOT@90 (io), 91 GNSS_ANT_PWR@91 (io), 92 GNSS_LNA_EN@92 (io), 93 GND@93 (io), 94 GNSS_RF@94 (io), 95 GND@95 (io)

## XENON
designator U1?, comment XENON   The Particle Xenon is a low cost mesh-enabled development board that can act as either an endpoint or repeater within a Particle Mesh network. More information: https://docs.particle.io/xenon/ Footprint and formfactor based on Adafruit Feather.  (value not drawn)
GateName_1: U1; SymbolName_1: XENON; LibraryName: Particle-Devices; DeviceSetName: XENON; Package: XENON
footprint XENON
pins: 1 !RST (in), 2 3V3 (power), 3 MODE (io), 4 GND (power), 5 A0 (io), 6 A1 (io), 7 A2 (io), 8 A3 (io), 9 A4 (io), 10 A5 (io), 11 SCK (io), 12 MOSI (io), 13 MISO (io), 14 RX (io), 15 TX (io), 16 NC (io), 17 SDA (io), 18 SCL (io), 19 D2 (io), 20 D3 (io), 21 D4 (io), 22 D5 (io), 23 D6 (io), 24 D7 (io), 25 D8 (io), 26 VUSB (power), 27 EN (in), 28 LI+ (power)